# EAGLE library part AD9708AR (library My_Library_2)
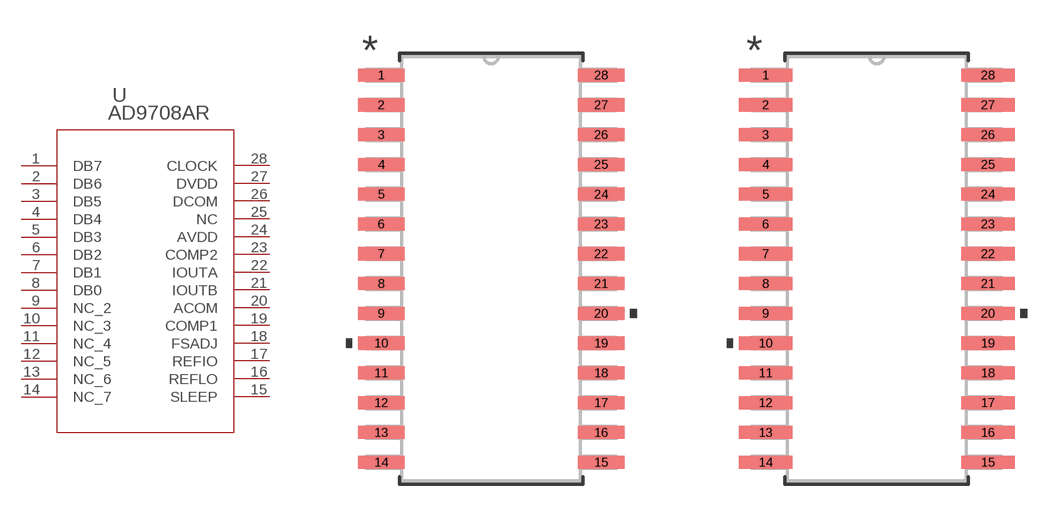
[diagram p0: symbol with the pads of RW_28_ADI; footprints RW_28_ADI, RW_28_ADI-M]

Designator prefix U

## AD9708AR (COPYRIGHT: Copyright (C) 2024 Ultra Librarian. All rights reserved.; MANUFACTURER_PART_NUMBER: AD9708AR; MFR_NAME: Analog Devices Inc)  [RW_28_ADI]
1  DB7  pas
2  DB6  pas
3  DB5  pas
4  DB4  pas
5  DB3  pas
6  DB2  pas
7  DB1  pas
8  DB0  pas
9  NC_2  pas
10  NC_3  pas
11  NC_4  pas
12  NC_5  pas
13  NC_6  pas
14  NC_7  pas
15  SLEEP  pas
16  REFLO  pas
17  REFIO  pas
18  FSADJ  pas
19  COMP1  pas
20  ACOM  pas
21  IOUTB  pas
22  IOUTA  pas
23  COMP2  pas
24  AVDD  pwr
25  NC  pas
26  DCOM  pas
27  DVDD  pwr
28  CLOCK  pas

## AD9708ARRW_28_ADI-M (COPYRIGHT: Copyright (C) 2024 Ultra Librarian. All rights reserved.; MANUFACTURER_PART_NUMBER: AD9708AR; MFR_NAME: Analog Devices Inc)  [RW_28_ADI-M]
Pads as for RW_28_ADI

## AD9708ARRW_28_ADI-L (COPYRIGHT: Copyright (C) 2024 Ultra Librarian. All rights reserved.; MANUFACTURER_PART_NUMBER: AD9708AR; MFR_NAME: Analog Devices Inc)  [RW_28_ADI-L]
Pads as for RW_28_ADI

## Footprint RW_28_ADI (pad centres in mm)
smd 1.981 x 0.559: 1 -4.686,8.255; 2 -4.686,6.985; 3 -4.686,5.715; 4 -4.686,4.445; 5 -4.686,3.175; 6 -4.686,1.905; 7 -4.686,0.635; 8 -4.686,-0.635; 9 -4.686,-1.905; 10 -4.686,-3.175; 11 -4.686,-4.445; 12 -4.686,-5.715; 13 -4.686,-6.985; 14 -4.686,-8.255; 15 4.686,-8.255; 16 4.686,-6.985; 17 4.686,-5.715; 18 4.686,-4.445; 19 4.686,-3.175; 20 4.686,-1.905; 21 4.686,-0.635; 22 4.686,0.635; 23 4.686,1.905; 24 4.686,3.175; 25 4.686,4.445; 26 4.686,5.715; 27 4.686,6.985; 28 4.686,8.255

## Footprint RW_28_ADI-M (pad centres in mm)
smd 2.286 x 0.559: 1 -4.737,8.255; 2 -4.737,6.985; 3 -4.737,5.715; 4 -4.737,4.445; 5 -4.737,3.175; 6 -4.737,1.905; 7 -4.737,0.635; 8 -4.737,-0.635; 9 -4.737,-1.905; 10 -4.737,-3.175; 11 -4.737,-4.445; 12 -4.737,-5.715; 13 -4.737,-6.985; 14 -4.737,-8.255; 15 4.737,-8.255; 16 4.737,-6.985; 17 4.737,-5.715; 18 4.737,-4.445; 19 4.737,-3.175; 20 4.737,-1.905; 21 4.737,-0.635; 22 4.737,0.635; 23 4.737,1.905; 24 4.737,3.175; 25 4.737,4.445; 26 4.737,5.715; 27 4.737,6.985; 28 4.737,8.255

## Footprint RW_28_ADI-L (pad centres in mm)
smd 1.676 x 0.508: 1 -4.636,8.255; 2 -4.636,6.985; 3 -4.636,5.715; 4 -4.636,4.445; 5 -4.636,3.175; 6 -4.636,1.905; 7 -4.636,0.635; 8 -4.636,-0.635; 9 -4.636,-1.905; 10 -4.636,-3.175; 11 -4.636,-4.445; 12 -4.636,-5.715; 13 -4.636,-6.985; 14 -4.636,-8.255; 15 4.636,-8.255; 16 4.636,-6.985; 17 4.636,-5.715; 18 4.636,-4.445; 19 4.636,-3.175; 20 4.636,-1.905; 21 4.636,-0.635; 22 4.636,0.635; 23 4.636,1.905; 24 4.636,3.175; 25 4.636,4.445; 26 4.636,5.715; 27 4.636,6.985; 28 4.636,8.255